# EAGLE library part AX5043 (library axsem_v4-11)
AXSEM highest performance narrow band transceiver for 70-1050 MHz -126 dBm sensitivity at 1.2 kbps and 868 MHz 16 dBm output power 256 Byte packet buffer
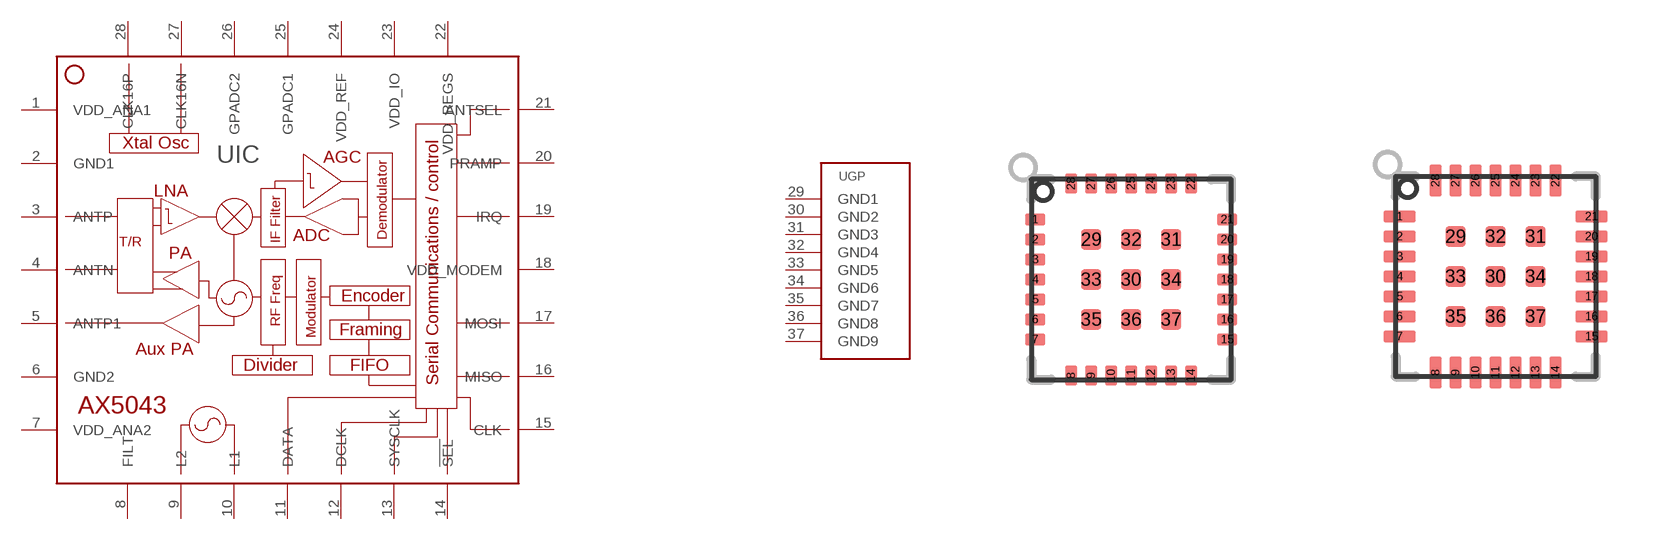
[diagram p7: symbol with the pads of QFN28; footprints QFN28, QFN28-H]

Designator prefix U; gates IC=AX5043 GP=GROUNDPAD

## AX5043N  [QFN28]
1  IC:VDD_ANA1  pwr
2  IC:GND1  pwr
3  IC:ANTP  pas
4  IC:ANTN  pas
5  IC:ANTP1  pas
6  IC:GND2  pwr
7  IC:VDD_ANA2  pwr
8  IC:FILT  pas
9  IC:L2  pas
10  IC:L1  pas
11  IC:DATA
12  IC:DCLK
13  IC:SYSCLK
14  IC:!SEL  in
15  IC:CLK  in
16  IC:MISO  out
17  IC:MOSI  in
18  IC:VDD_MODEM  pwr
19  IC:IRQ
20  IC:PRAMP
21  IC:ANTSEL
22  IC:VDD_REGS  pwr
23  IC:VDD_IO  pwr
24  IC:VDD_REF  pwr
25  IC:GPADC1  pas
26  IC:GPADC2  pwr
27  IC:CLK16N  pas
28  IC:CLK16P  pas
29  GP:GND1  pwr
30  GP:GND2  pwr
31  GP:GND3  pwr
32  GP:GND4  pwr
33  GP:GND5  pwr
34  GP:GND6  pwr
35  GP:GND7  pwr
36  GP:GND8  pwr
37  GP:GND9  pwr

## AX5043HS  [QFN28-H]
Pads as for QFN28

## AX5043HS-P1  [QFN28-H-P1]

## Footprint QFN28 (pad centres in mm)
AXSEM QFN28 package
smd 0.5 x 0.3: 1 -2.4,1.5; 2 -2.4,1; 3 -2.4,0.5; 4 -2.4,0; 5 -2.4,-0.5; 6 -2.4,-1; 7 -2.4,-1.5; 15 2.4,-1.5; 16 2.4,-1; 17 2.4,-0.5; 18 2.4,0; 19 2.4,0.5; 20 2.4,1; 21 2.4,1.5
smd 0.3 x 0.5: 8 -1.5,-2.4; 9 -1,-2.4; 10 -0.5,-2.4; 11 0,-2.4; 12 0.5,-2.4; 13 1,-2.4; 14 1.5,-2.4; 22 1.5,2.4; 23 1,2.4; 24 0.5,2.4; 25 0,2.4; 26 -0.5,2.4; 27 -1,2.4; 28 -1.5,2.4
smd 0.5 x 0.5: 29 -1,1; 30 0,0; 31 1,1; 32 0,1; 33 -1,0; 34 1,0; 35 -1,-1; 36 0,-1; 37 1,-1

## Footprint QFN28-H (pad centres in mm)
QFN 28 5x5 for hand soldering
smd 0.8 x 0.3: 1 -2.4,1.5; 2 -2.4,1; 3 -2.4,0.5; 4 -2.4,0; 5 -2.4,-0.5; 6 -2.4,-1; 7 -2.4,-1.5; 15 2.4,-1.5; 16 2.4,-1; 17 2.4,-0.5; 18 2.4,0; 19 2.4,0.5; 20 2.4,1; 21 2.4,1.5
smd 0.3 x 0.8: 8 -1.5,-2.4; 9 -1,-2.4; 10 -0.5,-2.4; 11 0,-2.4; 12 0.5,-2.4; 13 1,-2.4; 14 1.5,-2.4; 22 1.5,2.4; 23 1,2.4; 24 0.5,2.4; 25 0,2.4; 26 -0.5,2.4; 27 -1,2.4; 28 -1.5,2.4
smd 0.5 x 0.5: 29 -1,1; 30 0,0; 31 1,1; 32 0,1; 33 -1,0; 34 1,0; 35 -1,-1; 36 0,-1; 37 1,-1

## Footprint QFN28-H-P1 (pad centres in mm)
QFN28 5x5 for hand soldering with extended pin 1
smd 1 x 0.3: 1 -2.5,1.5
smd 0.8 x 0.3: 2 -2.4,1; 3 -2.4,0.5; 4 -2.4,0; 5 -2.4,-0.5; 6 -2.4,-1; 7 -2.4,-1.5; 15 2.4,-1.5; 16 2.4,-1; 17 2.4,-0.5; 18 2.4,0; 19 2.4,0.5; 20 2.4,1; 21 2.4,1.5
smd 0.3 x 0.8: 8 -1.5,-2.4; 9 -1,-2.4; 10 -0.5,-2.4; 11 0,-2.4; 12 0.5,-2.4; 13 1,-2.4; 14 1.5,-2.4; 22 1.5,2.4; 23 1,2.4; 24 0.5,2.4; 25 0,2.4; 26 -0.5,2.4; 27 -1,2.4; 28 -1.5,2.4
smd 0.5 x 0.5: 29 -1,1; 30 0,0; 31 1,1; 32 0,1; 33 -1,0; 34 1,0; 35 -1,-1; 36 0,-1; 37 1,-1